# EAGLE library part TEENSY_3.5-3.2 (library MrRobotics-Boards)
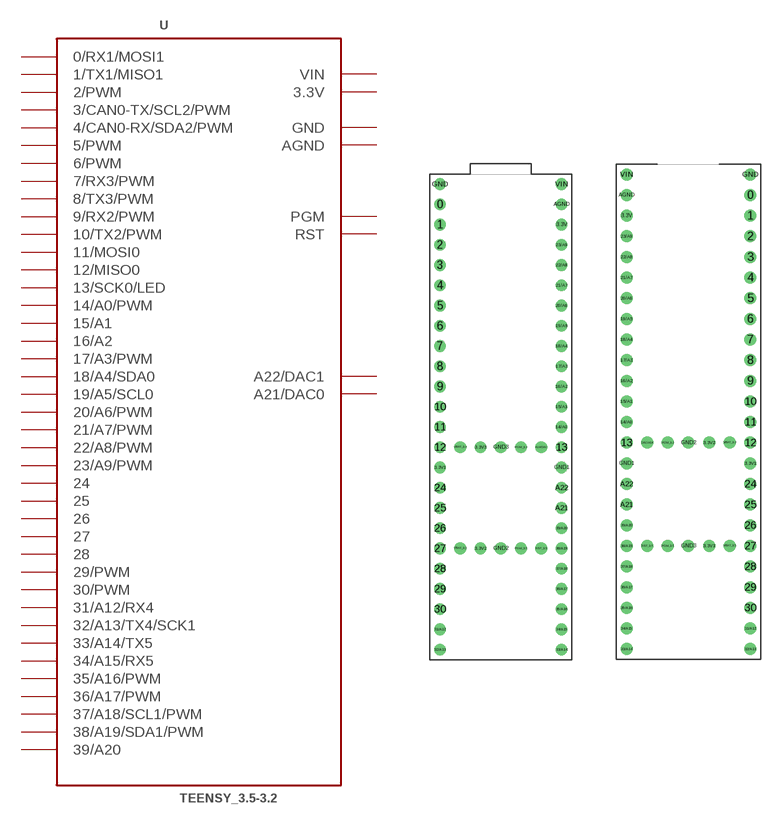
[diagram p9: symbol with the pads of TEENSY_3.5-3.2; footprints TEENSY_3.5-3.2, TEENSY_3.5-3.2_INV]

Designator prefix -

## TEENSY_3.5-3.2  [TEENSY_3.5-3.2]
0  0/RX1/MOSI1
1  1/TX1/MISO1
2  2/PWM
3  3/CAN0-TX/SCL2/PWM
3.3V  3.3V  pwr
3.3V1  3.3V  pwr
3.3V2  3.3V  pwr
3.3V3  3.3V  pwr
4  4/CAN0-RX/SDA2/PWM
5  5/PWM
6  6/PWM
7  7/RX3/PWM
8  8/TX3/PWM
9  9/RX2/PWM
10  10/TX2/PWM
11  11/MOSI0
12  12/MISO0
13  13/SCK0/LED
14/A0  14/A0/PWM
15/A1  15/A1
16/A2  16/A2
17/A3  17/A3/PWM
18/A4  18/A4/SDA0
19/A5  19/A5/SCL0
20/A6  20/A6/PWM
21/A7  21/A7/PWM
22/A8  22/A8/PWM
23/A9  23/A9/PWM
24  24
25  25
26  26
27  27
28  28
29  29/PWM
30  30/PWM
31/A12  31/A12/RX4
32/A13  32/A13/TX4/SCK1
33/A14  33/A14/TX5
34/A15  34/A15/RX5
35/A16  35/A16/PWM
36/A17  36/A17/PWM
37/A18  37/A18/SCL1/PWM
38/A19  38/A19/SDA1/PWM
39/A20  39/A20
A21  A21/DAC0
A22  A22/DAC1
AGND  AGND  pwr
GND  GND  pwr
GND1  GND  pwr
GND2  GND  pwr
GND3  GND  pwr
PGM_3.2  PGM
PGM_3.5  PGM
RST_3.5  RST
VIN  VIN  pwr

## TEENSY_3.5-3.2INV  [TEENSY_3.5-3.2_INV]
Pads as for TEENSY_3.5-3.2

## Footprint TEENSY_3.5-3.2 (pad centres in mm)
drill 0.965: 0 -7.62,27.94; 1 -7.62,25.4; 2 -7.62,22.86; 3 -7.62,20.32; 3.3V 7.62,25.4; 3.3V1 -7.62,-5.08; 3.3V2 -2.54,-15.24; 3.3V3 -2.54,-2.54; 4 -7.62,17.78; 5 -7.62,15.24; 6 -7.62,12.7; 7 -7.62,10.16; 8 -7.62,7.62; 9 -7.62,5.08; 10 -7.62,2.54; 11 -7.62,0; 12 -7.62,-2.54; 13 7.62,-2.54; 14/A0 7.62,0; 15/A1 7.62,2.54; 16/A2 7.62,5.08; 17/A3 7.62,7.62; 18/A4 7.62,10.16; 19/A5 7.62,12.7; 20/A6 7.62,15.24; 21/A7 7.62,17.78; 22/A8 7.62,20.32; 23/A9 7.62,22.86; 24 -7.62,-7.62; 25 -7.62,-10.16; 26 -7.62,-12.7; 27 -7.62,-15.24; 28 -7.62,-17.78; 29 -7.62,-20.32; 30 -7.62,-22.86; 31/A12 -7.62,-25.4; 32/A13 -7.62,-27.94; 33/A14 7.62,-27.94; 34/A15 7.62,-25.4; 35/A16 7.62,-22.86; 36/A17 7.62,-20.32; 37/A18 7.62,-17.78; 38/A19 7.62,-15.24; 39/A20 7.62,-12.7; A14/DAC 5.08,-2.54; A21 7.62,-10.16; A22 7.62,-7.62; AGND 7.62,27.94; GND -7.62,30.48; GND1 7.62,-5.08; GND2 0,-15.24; GND3 0,-2.54; PGM_3.2 2.54,-2.54; PGM_3.5 2.54,-15.24; RST_3.5 5.08,-15.24; VBAT_3.2 -5.08,-2.54; VBAT_3.5 -5.08,-15.24; VIN 7.62,30.48

## Footprint TEENSY_3.5-3.2_INV (pad centres in mm)
drill 0.965: 0 7.62,27.94; 1 7.62,25.4; 2 7.62,22.86; 3 7.62,20.32; 3.3V -7.62,25.4; 3.3V1 7.62,-5.08; 3.3V2 2.54,-2.54; 3.3V3 2.54,-15.24; 4 7.62,17.78; 5 7.62,15.24; 6 7.62,12.7; 7 7.62,10.16; 8 7.62,7.62; 9 7.62,5.08; 10 7.62,2.54; 11 7.62,0; 12 7.62,-2.54; 13 -7.62,-2.54; 14/A0 -7.62,0; 15/A1 -7.62,2.54; 16/A2 -7.62,5.08; 17/A3 -7.62,7.62; 18/A4 -7.62,10.16; 19/A5 -7.62,12.7; 20/A6 -7.62,15.24; 21/A7 -7.62,17.78; 22/A8 -7.62,20.32; 23/A9 -7.62,22.86; 24 7.62,-7.62; 25 7.62,-10.16; 26 7.62,-12.7; 27 7.62,-15.24; 28 7.62,-17.78; 29 7.62,-20.32; 30 7.62,-22.86; 31/A12 7.62,-25.4; 32/A13 7.62,-27.94; 33/A14 -7.62,-27.94; 34/A15 -7.62,-25.4; 35/A16 -7.62,-22.86; 36/A17 -7.62,-20.32; 37/A18 -7.62,-17.78; 38/A19 -7.62,-15.24; 39/A20 -7.62,-12.7; A21 -7.62,-10.16; A22 -7.62,-7.62; AGND -7.62,27.94; DAC/A14 -5.08,-2.54; GND 7.62,30.48; GND1 -7.62,-5.08; GND2 0,-2.54; GND3 0,-15.24; PGM_3.2 -2.54,-2.54; PGM_3.5 -2.54,-15.24; RST_3.5 -5.08,-15.24; VBAT_3.2 5.08,-2.54; VBAT_3.5 5.08,-15.24; VIN -7.62,30.48